# EAGLE library part NHD-C12864A1Z-FSW-FBW-HTT (library kiss_z)
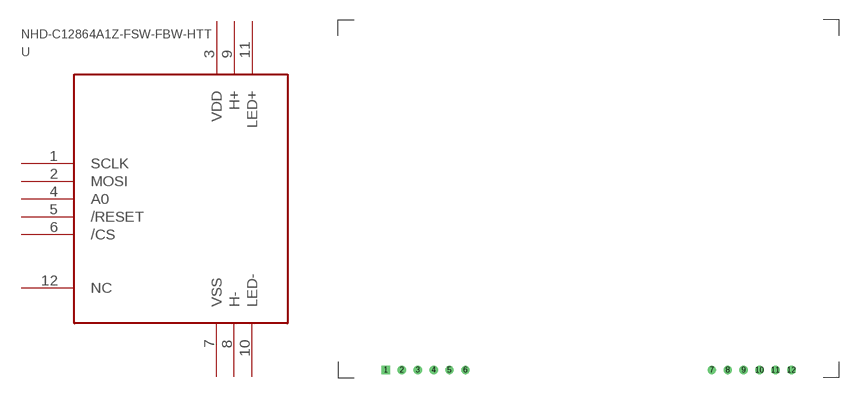
[diagram p5: symbol with the pads of NHD-C12864A1Z-FSW-FBW-HTT; footprint NHD-C12864A1Z-FSW-FBW-HTT]

Designator prefix -

## NHD-C12864A1Z-FSW-FBW-HTT  [NHD-C12864A1Z-FSW-FBW-HTT]
1  SCLK  pas
2  MOSI  pas
3  VDD  pas
4  A0  pas
5  /RESET  pas
6  /CS  pas
7  VSS  pas
8  H-  pas
9  H+  pas
10  LED-  pas
11  LED+  pas
12  NC  nc

## Footprint NHD-C12864A1Z-FSW-FBW-HTT (pad centres in mm)
drill 0.813 pad 1.321 square: 1 7.62,0
drill 0.813 pad 1.321: 2 10.16,0; 3 12.7,0; 4 15.24,0; 5 17.78,0; 6 20.32,0; 7 59.69,0; 8 62.23,0; 9 64.77,0; 10 67.31,0; 11 69.85,0; 12 72.39,0